# Altium footprint library avr_da.PcbLib: 16 footprints
Each footprint in its own frame and in the unit in brackets; x right, y up, seen from the top. Pads: shape width x height; smd on the part's side, far side on the other; paste and mask are expansions set on the pad; w line width, h text height; cw(c..) or ccw(c..) is an arc to the next point about the centre after c.
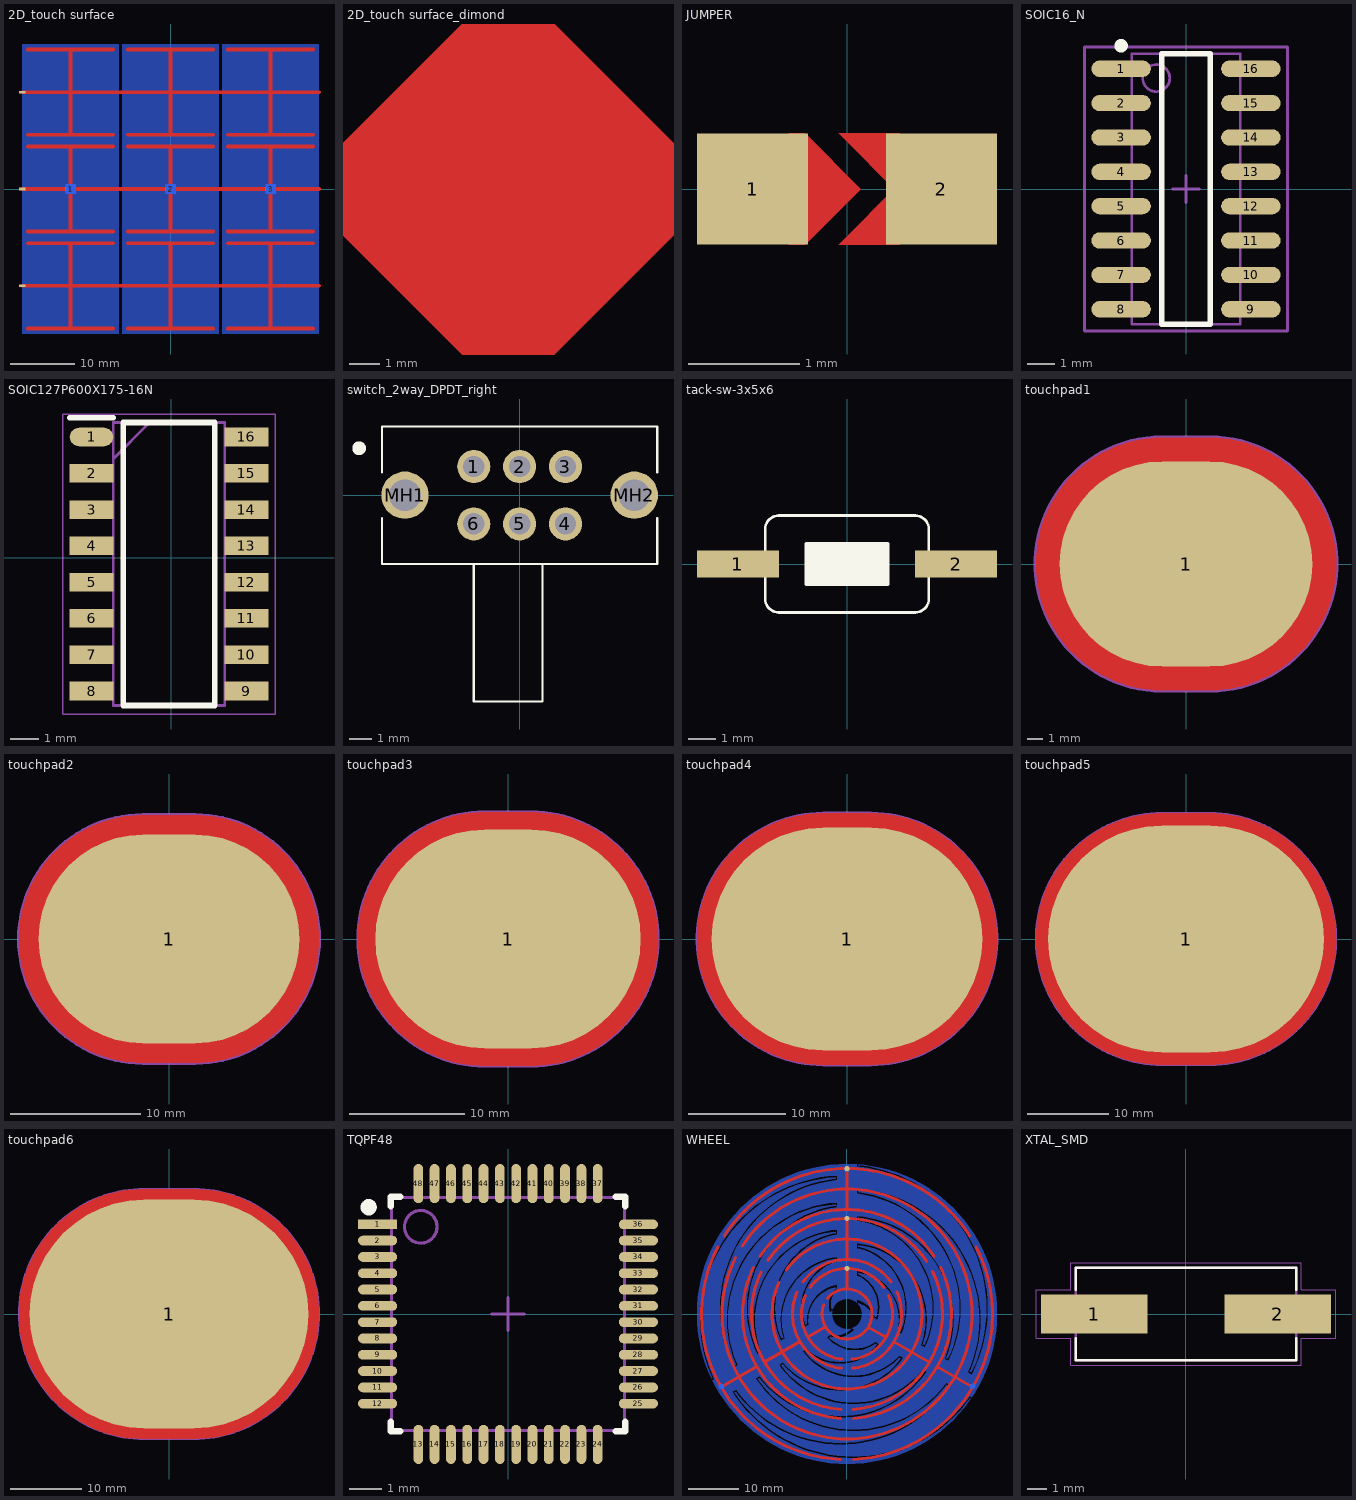
[diagram p0: the footprints below, top view; thin cyan lines are the x and y axes]

## 2D_touch surface [mm]
pads (6):
  rect 1.55x1.55 smd far side mask+0.102: 1(-15.5,0) 2(0,0) 3(15.5,0)
  rect 1x0.4 smd mask+0.102: 4(-23,15) 5(-23,0) 6(-23,-15)
Top Layer:
  lines w0.6: -23,-15 23,-15 ; -23,0 23,0 ; -23,15 23,15 ; -22.1,-21.6 -8.9,-21.6 ; -22.1,-8.4 -8.9,-8.4 ; -22.1,-6.6 -8.9,-6.6 ; -22.1,6.6 -8.9,6.6 ; -22.1,8.4 -8.9,8.4 ; -22.1,21.6 -8.9,21.6 ; -15.5,-21.6 -15.5,-8.4 ; -15.5,-6.6 -15.5,6.6 ; -15.5,8.4 -15.5,21.6 ; -6.6,-21.6 6.6,-21.6 ; -6.6,-8.4 6.6,-8.4 ; -6.6,-6.6 6.6,-6.6 ; -6.6,6.6 6.6,6.6 ; -6.6,8.4 6.6,8.4 ; -6.6,21.6 6.6,21.6 ; 0,-21.6 0,-8.4 ; 0,-6.6 0,6.6 ; 0,8.4 0,21.6 ; 8.9,-21.6 22.1,-21.6 ; 8.9,-8.4 22.1,-8.4 ; 8.9,-6.6 22.1,-6.6 ; 8.9,6.6 22.1,6.6 ; 8.9,8.4 22.1,8.4 ; 8.9,21.6 22.1,21.6 ; 15.5,-21.6 15.5,-8.4 ; 15.5,-6.6 15.5,6.6 ; 15.5,8.4 15.5,21.6
Bottom Layer:
  rectangle: -23,-22.5 -8,22.5
  rectangle: -7.5,-22.5 7.5,22.5
  rectangle: 8,-22.5 23,22.5

## 2D_touch surface_dimond [mm]
Top Layer:
  region: 0,-7.071 7.071,0 0,7.071 -7.071,0

## JUMPER [mm]
pads (2):
  rect 1x1 smd mask+0.05: 1(-0.85,0) 2(0.85,0)
Top Layer:
  region: -0.375,0.5 0.125,0 -0.375,-0.5 -0.525,-0.5 -0.525,0.5
  region: 0.475,0.05 0.475,-0.5 -0.075,-0.5
  region: 0.475,0.5 -0.075,0.5 0.475,-0.05

## SOIC16_N [mm] "SOIC, 16-Leads, Body 9.9x3.9mm, Pitch 1.27mm, IPC Medium Density"
height 1.91
pads (16):
  oval 2.2x0.6 smd: 1(-2.4,4.445) 2(-2.4,3.175) 3(-2.4,1.905) 4(-2.4,0.635) 5(-2.4,-0.635) 6(-2.4,-1.905) 7(-2.4,-3.175) 8(-2.4,-4.445) 9(2.4,-4.445) 10(2.4,-3.175) 11(2.4,-1.905) 12(2.4,-0.635) 13(2.4,0.635) 14(2.4,1.905) 15(2.4,3.175) 16(2.4,4.445)
Top Overlay:
  circle w0.25: c-2.4,5.295 r0.125
  lines w0.2: -0.9,-5 -0.9,5 0.9,5 0.9,-5 -0.9,-5
Mechanical 13:
  circle w0.1: c-1.1,4.1 r0.5
  lines w0.1: -2,-5 -2,5 2,5 2,-5 -2,-5
Mechanical 15:
  lines w0.1: -0.5,0 0.5,0 ; 0,-0.5 0,0.5 ; -3.75,-5.25 -3.75,5.25 3.75,5.25 3.75,-5.25 -3.75,-5.25
3D body: height 1.91, standoff 0, extent -2,-5 2,5

## SOIC127P600X175-16N [mm]
pads (16):
  oval 1.525x0.65 smd: 1(-2.787,4.22)
  rect 1.525x0.65 smd: 2(-2.787,2.95) 3(-2.787,1.68) 4(-2.787,0.41) 5(-2.787,-0.86) 6(-2.787,-2.13) 7(-2.787,-3.4) 8(-2.787,-4.67) 9(2.637,-4.67) 10(2.637,-3.4) 11(2.637,-2.13) 12(2.637,-0.86) 13(2.637,0.41) 14(2.637,1.68) 15(2.637,2.95) 16(2.637,4.22)
Top Overlay:
  lines w0.2: -3.55,4.895 -2.025,4.895 ; -1.675,-5.175 -1.675,4.725 1.525,4.725 1.525,-5.175 -1.675,-5.175
Mechanical 13:
  lines w0.1: -2.025,3.455 -0.755,4.725 ; -2.025,-5.175 -2.025,4.725 1.875,4.725 1.875,-5.175 -2.025,-5.175
Mechanical 15:
  lines w0.05: -3.8,-5.475 -3.8,5.025 3.65,5.025 3.65,-5.475 -3.8,-5.475
3D body "MAX3232ECD.stp": height 1.75, standoff 0, extent -3.088,-5.165 2.938,4.735

## switch_2way_DPDT_right [mm]
pads (8):
  round 1.447 hole 0.93: 1(-2,1.25) 2(0,1.25) 3(2,1.25) 4(2,-1.25) 5(0,-1.25) 6(-2,-1.25)
  round 2.07 hole 1.38: MH1(-5,0) MH2(5,0)
Top Overlay:
  lines w0.1: -6,-1 -6,-3 6,-3 6,-1 ; -6,1 -6,3 6,3 6,1 ; -2,-3 -2,-9 1,-9 1,-3
  lines w0.5: -7,2 cw(c-7,2.05) -7,2.1 cw(c-7,2.05) -7,2
3D body "step_temp.STEP": height 5.07, standoff -2.93, extent -5.093,-9.048 5.207,2.952

## tack-sw-3x5x6 [mm]
pads (2):
  rect 3x1 smd mask+0.05: 1(-4,0) 2(4,0)
Top Overlay:
  rectangle: -1.5,-0.75 1.5,0.75
  lines w0.1: -3,-1.275 ccw(c-2.5,-1.275) -2.5,-1.775 2.5,-1.775 ccw(c2.5,-1.275) 3,-1.275 3,1.275 ccw(c2.5,1.275) 2.5,1.775 -2.5,1.775 ccw(c-2.5,1.275) -3,1.275 -3,-1.275 ; -1.5,-0.75 1.5,-0.75 1.5,0.75 -1.5,0.75 -1.5,-0.75
3D body "RS-032G05A3-SM RT--3DModel-STEP-56544.STEP": height 4.3, standoff 0, extent -4,-1.75 4,1.75

## touchpad1 [mm]
pads (1):
  oval 16x13 smd mask+0.102: 1(0,0)
Top Layer:
  pour cut-out: -1.5,-8 -1.949,-8 -2.842,-7.899 -3.718,-7.699 -4.566,-7.403 -5.376,-7.013 -6.137,-6.535 -6.839,-5.975 -7.475,-5.339 -8.035,-4.637 -8.513,-3.876 -8.903,-3.066 -9.199,-2.218 -9.399,-1.342 -9.5,-0.449 -9.5,0.449 -9.399,1.342 -9.199,2.218 -8.903,3.066 -8.513,3.876 -8.035,4.637 -7.475,5.339 -6.839,5.975 -6.137,6.535 -5.376,7.013 -4.566,7.403 -3.718,7.699 -2.842,7.899 -1.949,8 -1.5,8 1.5,8 1.949,8 2.842,7.899 3.718,7.699 4.566,7.403 5.376,7.013 6.137,6.535 6.839,5.975 7.475,5.339 8.035,4.637 8.513,3.876 8.903,3.066 9.199,2.218 9.399,1.342 9.5,0.449 9.5,-0.449 9.399,-1.342 9.199,-2.218 8.903,-3.066 8.513,-3.876 8.035,-4.637 7.475,-5.339 6.839,-5.975 6.137,-6.535 5.376,-7.013 4.566,-7.403 3.718,-7.699 2.842,-7.899 1.949,-8 1.5,-8
Bottom Layer:
  pour cut-out: -1.5,-8 -1.949,-8 -2.842,-7.899 -3.718,-7.699 -4.566,-7.403 -5.376,-7.013 -6.137,-6.535 -6.839,-5.975 -7.475,-5.339 -8.035,-4.637 -8.513,-3.876 -8.903,-3.066 -9.199,-2.218 -9.399,-1.342 -9.5,-0.449 -9.5,0.449 -9.399,1.342 -9.199,2.218 -8.903,3.066 -8.513,3.876 -8.035,4.637 -7.475,5.339 -6.839,5.975 -6.137,6.535 -5.376,7.013 -4.566,7.403 -3.718,7.699 -2.842,7.899 -1.949,8 -1.5,8 1.5,8 1.949,8 2.842,7.899 3.718,7.699 4.566,7.403 5.376,7.013 6.137,6.535 6.839,5.975 7.475,5.339 8.035,4.637 8.513,3.876 8.903,3.066 9.199,2.218 9.399,1.342 9.5,0.449 9.5,-0.449 9.399,-1.342 9.199,-2.218 8.903,-3.066 8.513,-3.876 8.035,-4.637 7.475,-5.339 6.839,-5.975 6.137,-6.535 5.376,-7.013 4.566,-7.403 3.718,-7.699 2.842,-7.899 1.949,-8 1.5,-8
Top Overlay:
  text "13x16" at -3.05,-0.725 h3
Top Courtyard:
  lines w0.3: -1.5,-8 cw(c-1.5,0) -1.5,8 1.5,8 cw(c1.5,0) 1.5,-8 -1.5,-8

## touchpad2 [mm]
pads (1):
  oval 20x16 smd mask+0.102: 1(0,0)
Top Layer:
  pour cut-out: -2,-9.5 -2.467,-9.5 -3.396,-9.409 -4.311,-9.226 -5.204,-8.955 -6.067,-8.598 -6.89,-8.158 -7.666,-7.64 -8.388,-7.048 -9.048,-6.388 -9.64,-5.666 -10.158,-4.89 -10.598,-4.067 -10.955,-3.204 -11.226,-2.311 -11.409,-1.396 -11.5,-0.467 -11.5,0.467 -11.409,1.396 -11.226,2.311 -10.955,3.204 -10.598,4.067 -10.158,4.89 -9.64,5.666 -9.048,6.388 -8.388,7.048 -7.666,7.64 -6.89,8.158 -6.067,8.598 -5.204,8.955 -4.311,9.226 -3.396,9.409 -2.467,9.5 -2,9.5 2,9.5 2.467,9.5 3.396,9.409 4.311,9.226 5.204,8.955 6.067,8.598 6.89,8.158 7.666,7.64 8.388,7.048 9.048,6.388 9.64,5.666 10.158,4.89 10.598,4.067 10.955,3.204 11.226,2.311 11.409,1.396 11.5,0.467 11.5,-0.467 11.409,-1.396 11.226,-2.311 10.955,-3.204 10.598,-4.067 10.158,-4.89 9.64,-5.666 9.048,-6.388 8.388,-7.048 7.666,-7.64 6.89,-8.158 6.067,-8.598 5.204,-8.955 4.311,-9.226 3.396,-9.409 2.467,-9.5 2,-9.5
Bottom Layer:
  pour cut-out: -2,-9.5 -2.467,-9.5 -3.396,-9.409 -4.311,-9.226 -5.204,-8.955 -6.067,-8.598 -6.89,-8.158 -7.666,-7.64 -8.388,-7.048 -9.048,-6.388 -9.64,-5.666 -10.158,-4.89 -10.598,-4.067 -10.955,-3.204 -11.226,-2.311 -11.409,-1.396 -11.5,-0.467 -11.5,0.467 -11.409,1.396 -11.226,2.311 -10.955,3.204 -10.598,4.067 -10.158,4.89 -9.64,5.666 -9.048,6.388 -8.388,7.048 -7.666,7.64 -6.89,8.158 -6.067,8.598 -5.204,8.955 -4.311,9.226 -3.396,9.409 -2.467,9.5 -2,9.5 2,9.5 2.467,9.5 3.396,9.409 4.311,9.226 5.204,8.955 6.067,8.598 6.89,8.158 7.666,7.64 8.388,7.048 9.048,6.388 9.64,5.666 10.158,4.89 10.598,4.067 10.955,3.204 11.226,2.311 11.409,1.396 11.5,0.467 11.5,-0.467 11.409,-1.396 11.226,-2.311 10.955,-3.204 10.598,-4.067 10.158,-4.89 9.64,-5.666 9.048,-6.388 8.388,-7.048 7.666,-7.64 6.89,-8.158 6.067,-8.598 5.204,-8.955 4.311,-9.226 3.396,-9.409 2.467,-9.5 2,-9.5
Top Overlay:
  text "16x20" at -3.05,-0.725 h3
Top Courtyard:
  lines w0.3: -2,-9.5 cw(c-2,0) -2,9.5 2,9.5 cw(c2,0) 2,-9.5 -2,-9.5

## touchpad3 [mm]
pads (1):
  oval 23x19 smd mask+0.102: 1(0,0)
Top Layer:
  pour cut-out: -2,-11 -2.48,-11 -3.437,-10.916 -4.383,-10.749 -5.311,-10.501 -6.214,-10.172 -7.084,-9.766 -7.916,-9.286 -8.703,-8.735 -9.439,-8.118 -10.118,-7.439 -10.735,-6.703 -11.286,-5.916 -11.766,-5.084 -12.172,-4.214 -12.501,-3.311 -12.749,-2.383 -12.916,-1.437 -13,-0.48 -13,0.48 -12.916,1.437 -12.749,2.383 -12.501,3.311 -12.172,4.214 -11.766,5.084 -11.286,5.916 -10.735,6.703 -10.118,7.439 -9.439,8.118 -8.703,8.735 -7.916,9.286 -7.084,9.766 -6.214,10.172 -5.311,10.501 -4.383,10.749 -3.437,10.916 -2.48,11 -2,11 2,11 2.48,11 3.437,10.916 4.383,10.749 5.311,10.501 6.214,10.172 7.084,9.766 7.916,9.286 8.703,8.735 9.439,8.118 10.118,7.439 10.735,6.703 11.286,5.916 11.766,5.084 12.172,4.214 12.501,3.311 12.749,2.383 12.916,1.437 13,0.48 13,-0.48 12.916,-1.437 12.749,-2.383 12.501,-3.311 12.172,-4.214 11.766,-5.084 11.286,-5.916 10.735,-6.703 10.118,-7.439 9.439,-8.118 8.703,-8.735 7.916,-9.286 7.084,-9.766 6.214,-10.172 5.311,-10.501 4.383,-10.749 3.437,-10.916 2.48,-11 2,-11
Bottom Layer:
  pour cut-out: -2,-11 -2.48,-11 -3.437,-10.916 -4.383,-10.749 -5.311,-10.501 -6.214,-10.172 -7.084,-9.766 -7.916,-9.286 -8.703,-8.735 -9.439,-8.118 -10.118,-7.439 -10.735,-6.703 -11.286,-5.916 -11.766,-5.084 -12.172,-4.214 -12.501,-3.311 -12.749,-2.383 -12.916,-1.437 -13,-0.48 -13,0.48 -12.916,1.437 -12.749,2.383 -12.501,3.311 -12.172,4.214 -11.766,5.084 -11.286,5.916 -10.735,6.703 -10.118,7.439 -9.439,8.118 -8.703,8.735 -7.916,9.286 -7.084,9.766 -6.214,10.172 -5.311,10.501 -4.383,10.749 -3.437,10.916 -2.48,11 -2,11 2,11 2.48,11 3.437,10.916 4.383,10.749 5.311,10.501 6.214,10.172 7.084,9.766 7.916,9.286 8.703,8.735 9.439,8.118 10.118,7.439 10.735,6.703 11.286,5.916 11.766,5.084 12.172,4.214 12.501,3.311 12.749,2.383 12.916,1.437 13,0.48 13,-0.48 12.916,-1.437 12.749,-2.383 12.501,-3.311 12.172,-4.214 11.766,-5.084 11.286,-5.916 10.735,-6.703 10.118,-7.439 9.439,-8.118 8.703,-8.735 7.916,-9.286 7.084,-9.766 6.214,-10.172 5.311,-10.501 4.383,-10.749 3.437,-10.916 2.48,-11 2,-11
Top Overlay:
  text "19x23" at -3.025,-0.625 h3
Top Courtyard:
  lines w0.3: -2,-11 cw(c-2,0) -2,11 2,11 cw(c2,0) 2,-11 -2,-11

## touchpad4 [mm]
pads (1):
  oval 28x23 smd mask+0.102: 1(0,0)
Top Layer:
  pour cut-out: -2.5,-13 -3.068,-13 -4.198,-12.901 -5.316,-12.704 -6.413,-12.41 -7.48,-12.022 -8.508,-11.542 -9.492,-10.975 -10.421,-10.323 -11.291,-9.594 -12.094,-8.791 -12.823,-7.921 -13.475,-6.992 -14.042,-6.008 -14.522,-4.98 -14.91,-3.913 -15.204,-2.816 -15.401,-1.698 -15.5,-0.568 -15.5,0.568 -15.401,1.698 -15.204,2.816 -14.91,3.913 -14.522,4.98 -14.042,6.008 -13.475,6.992 -12.823,7.921 -12.094,8.791 -11.291,9.594 -10.421,10.323 -9.492,10.975 -8.508,11.542 -7.48,12.022 -6.413,12.41 -5.316,12.704 -4.198,12.901 -3.068,13 -2.5,13 2.5,13 3.068,13 4.198,12.901 5.316,12.704 6.413,12.41 7.48,12.022 8.508,11.542 9.492,10.975 10.421,10.323 11.291,9.594 12.094,8.791 12.823,7.921 13.475,6.992 14.042,6.008 14.522,4.98 14.91,3.913 15.204,2.816 15.401,1.698 15.5,0.568 15.5,-0.568 15.401,-1.698 15.204,-2.816 14.91,-3.913 14.522,-4.98 14.042,-6.008 13.475,-6.992 12.823,-7.921 12.094,-8.791 11.291,-9.594 10.421,-10.323 9.492,-10.975 8.508,-11.542 7.48,-12.022 6.413,-12.41 5.316,-12.704 4.198,-12.901 3.068,-13 2.5,-13
Bottom Layer:
  pour cut-out: -2.5,-13 -3.068,-13 -4.198,-12.901 -5.316,-12.704 -6.413,-12.41 -7.48,-12.022 -8.508,-11.542 -9.492,-10.975 -10.421,-10.323 -11.291,-9.594 -12.094,-8.791 -12.823,-7.921 -13.475,-6.992 -14.042,-6.008 -14.522,-4.98 -14.91,-3.913 -15.204,-2.816 -15.401,-1.698 -15.5,-0.568 -15.5,0.568 -15.401,1.698 -15.204,2.816 -14.91,3.913 -14.522,4.98 -14.042,6.008 -13.475,6.992 -12.823,7.921 -12.094,8.791 -11.291,9.594 -10.421,10.323 -9.492,10.975 -8.508,11.542 -7.48,12.022 -6.413,12.41 -5.316,12.704 -4.198,12.901 -3.068,13 -2.5,13 2.5,13 3.068,13 4.198,12.901 5.316,12.704 6.413,12.41 7.48,12.022 8.508,11.542 9.492,10.975 10.421,10.323 11.291,9.594 12.094,8.791 12.823,7.921 13.475,6.992 14.042,6.008 14.522,4.98 14.91,3.913 15.204,2.816 15.401,1.698 15.5,0.568 15.5,-0.568 15.401,-1.698 15.204,-2.816 14.91,-3.913 14.522,-4.98 14.042,-6.008 13.475,-6.992 12.823,-7.921 12.094,-8.791 11.291,-9.594 10.421,-10.323 9.492,-10.975 8.508,-11.542 7.48,-12.022 6.413,-12.41 5.316,-12.704 4.198,-12.901 3.068,-13 2.5,-13
Top Overlay:
  text "23x28" at -3.25,-0.675 h3
Top Courtyard:
  lines w0.3: -2.5,-13 cw(c-2.5,0) -2.5,13 2.5,13 cw(c2.5,0) 2.5,-13 -2.5,-13

## touchpad5 [mm]
pads (1):
  oval 34x28 smd mask+0.102: 1(0,0)
Top Layer:
  pour cut-out: -3,-15.5 3,-15.5 3.609,-15.5 4.823,-15.404 6.026,-15.214 7.211,-14.93 8.369,-14.553 9.494,-14.087 10.579,-13.534 11.618,-12.898 12.603,-12.182 13.53,-11.391 14.391,-10.53 15.182,-9.603 15.898,-8.618 16.534,-7.579 17.087,-6.494 17.553,-5.369 17.93,-4.211 18.214,-3.026 18.404,-1.823 18.5,-0.609 18.5,0.609 18.404,1.823 18.214,3.026 17.93,4.211 17.553,5.369 17.087,6.494 16.534,7.579 15.898,8.618 15.182,9.603 14.391,10.53 13.53,11.391 12.603,12.182 11.618,12.898 10.579,13.534 9.494,14.087 8.369,14.553 7.211,14.93 6.026,15.214 4.823,15.404 3.609,15.5 3,15.5 -3,15.5 -3.609,15.5 -4.823,15.404 -6.026,15.214 -7.211,14.93 -8.369,14.553 -9.494,14.087 -10.579,13.534 -11.618,12.898 -12.603,12.182 -13.53,11.391 -14.391,10.53 -15.182,9.603 -15.898,8.618 -16.534,7.579 -17.087,6.494 -17.553,5.369 -17.93,4.211 -18.214,3.026 -18.404,1.823 -18.5,0.609 -18.5,-0.609 -18.404,-1.823 -18.214,-3.026 -17.93,-4.211 -17.553,-5.369 -17.087,-6.494 -16.534,-7.579 -15.898,-8.618 -15.182,-9.603 -14.391,-10.53 -13.53,-11.391 -12.603,-12.182 -11.618,-12.898 -10.579,-13.534 -9.494,-14.087 -8.369,-14.553 -7.211,-14.93 -6.026,-15.214 -4.823,-15.404 -3.609,-15.5
Bottom Layer:
  pour cut-out: -3,-15.5 3,-15.5 3.609,-15.5 4.823,-15.404 6.026,-15.214 7.211,-14.93 8.369,-14.553 9.494,-14.087 10.579,-13.534 11.618,-12.898 12.603,-12.182 13.53,-11.391 14.391,-10.53 15.182,-9.603 15.898,-8.618 16.534,-7.579 17.087,-6.494 17.553,-5.369 17.93,-4.211 18.214,-3.026 18.404,-1.823 18.5,-0.609 18.5,0.609 18.404,1.823 18.214,3.026 17.93,4.211 17.553,5.369 17.087,6.494 16.534,7.579 15.898,8.618 15.182,9.603 14.391,10.53 13.53,11.391 12.603,12.182 11.618,12.898 10.579,13.534 9.494,14.087 8.369,14.553 7.211,14.93 6.026,15.214 4.823,15.404 3.609,15.5 3,15.5 -3,15.5 -3.609,15.5 -4.823,15.404 -6.026,15.214 -7.211,14.93 -8.369,14.553 -9.494,14.087 -10.579,13.534 -11.618,12.898 -12.603,12.182 -13.53,11.391 -14.391,10.53 -15.182,9.603 -15.898,8.618 -16.534,7.579 -17.087,6.494 -17.553,5.369 -17.93,4.211 -18.214,3.026 -18.404,1.823 -18.5,0.609 -18.5,-0.609 -18.404,-1.823 -18.214,-3.026 -17.93,-4.211 -17.553,-5.369 -17.087,-6.494 -16.534,-7.579 -15.898,-8.618 -15.182,-9.603 -14.391,-10.53 -13.53,-11.391 -12.603,-12.182 -11.618,-12.898 -10.579,-13.534 -9.494,-14.087 -8.369,-14.553 -7.211,-14.93 -6.026,-15.214 -4.823,-15.404 -3.609,-15.5
Top Overlay:
  text "28x34" at -3.25,-0.675 h3
Top Courtyard:
  lines w0.3: -3,-15.5 cw(c-3,0) -3,15.5 3,15.5 cw(c3,0) 3,-15.5 -3,-15.5

## touchpad6 [mm]
pads (1):
  oval 39x32 smd mask+0.102: 1(0,0)
Top Layer:
  pour cut-out: -3.5,-17.5 3.5,-17.5 4.125,-17.5 5.372,-17.411 6.609,-17.233 7.831,-16.967 9.03,-16.615 10.201,-16.178 11.338,-15.659 12.435,-15.06 13.487,-14.384 14.488,-13.635 15.432,-12.816 16.316,-11.932 17.135,-10.988 17.884,-9.987 18.56,-8.935 19.159,-7.838 19.678,-6.701 20.115,-5.53 20.467,-4.331 20.733,-3.109 20.911,-1.872 21,-0.625 21,0.625 20.911,1.872 20.733,3.109 20.467,4.331 20.115,5.53 19.678,6.701 19.159,7.838 18.56,8.935 17.884,9.987 17.135,10.988 16.316,11.932 15.432,12.816 14.488,13.635 13.487,14.384 12.435,15.06 11.338,15.659 10.201,16.178 9.03,16.615 7.831,16.967 6.609,17.233 5.372,17.411 4.125,17.5 3.5,17.5 -3.5,17.5 -4.125,17.5 -5.372,17.411 -6.609,17.233 -7.831,16.967 -9.03,16.615 -10.201,16.178 -11.338,15.659 -12.435,15.06 -13.487,14.384 -14.488,13.635 -15.432,12.816 -16.316,11.932 -17.135,10.988 -17.884,9.987 -18.56,8.935 -19.159,7.838 -19.678,6.701 -20.115,5.53 -20.467,4.331 -20.733,3.109 -20.911,1.872 -21,0.625 -21,-0.625 -20.911,-1.872 -20.733,-3.109 -20.467,-4.331 -20.115,-5.53 -19.678,-6.701 -19.159,-7.838 -18.56,-8.935 -17.884,-9.987 -17.135,-10.988 -16.316,-11.932 -15.432,-12.816 -14.488,-13.635 -13.487,-14.384 -12.435,-15.06 -11.338,-15.659 -10.201,-16.178 -9.03,-16.615 -7.831,-16.967 -6.609,-17.233 -5.372,-17.411 -4.125,-17.5
Bottom Layer:
  pour cut-out: -3.5,-17.5 3.5,-17.5 4.125,-17.5 5.372,-17.411 6.609,-17.233 7.831,-16.967 9.03,-16.615 10.201,-16.178 11.338,-15.659 12.435,-15.06 13.487,-14.384 14.488,-13.635 15.432,-12.816 16.316,-11.932 17.135,-10.988 17.884,-9.987 18.56,-8.935 19.159,-7.838 19.678,-6.701 20.115,-5.53 20.467,-4.331 20.733,-3.109 20.911,-1.872 21,-0.625 21,0.625 20.911,1.872 20.733,3.109 20.467,4.331 20.115,5.53 19.678,6.701 19.159,7.838 18.56,8.935 17.884,9.987 17.135,10.988 16.316,11.932 15.432,12.816 14.488,13.635 13.487,14.384 12.435,15.06 11.338,15.659 10.201,16.178 9.03,16.615 7.831,16.967 6.609,17.233 5.372,17.411 4.125,17.5 3.5,17.5 -3.5,17.5 -4.125,17.5 -5.372,17.411 -6.609,17.233 -7.831,16.967 -9.03,16.615 -10.201,16.178 -11.338,15.659 -12.435,15.06 -13.487,14.384 -14.488,13.635 -15.432,12.816 -16.316,11.932 -17.135,10.988 -17.884,9.987 -18.56,8.935 -19.159,7.838 -19.678,6.701 -20.115,5.53 -20.467,4.331 -20.733,3.109 -20.911,1.872 -21,0.625 -21,-0.625 -20.911,-1.872 -20.733,-3.109 -20.467,-4.331 -20.115,-5.53 -19.678,-6.701 -19.159,-7.838 -18.56,-8.935 -17.884,-9.987 -17.135,-10.988 -16.316,-11.932 -15.432,-12.816 -14.488,-13.635 -13.487,-14.384 -12.435,-15.06 -11.338,-15.659 -10.201,-16.178 -9.03,-16.615 -7.831,-16.967 -6.609,-17.233 -5.372,-17.411 -4.125,-17.5
Top Overlay:
  text "32x39" at -3.25,-0.675 h3
Top Courtyard:
  lines w0.3: -3.5,-17.5 cw(c-3.5,0) -3.5,17.5 3.5,17.5 cw(c3.5,0) 3.5,-17.5 -3.5,-17.5

## TQPF48 [mm] "QFN, 48-Leads, Body 7x7mm, Pitch 0.5mm, IPC Low Density"
height 0.9
pads (48):
  rect 1.2x0.3 smd mask+0.05: 1(-4,2.75)
  oval 1.2x0.3 smd mask+0.05: 2(-4,2.25) 3(-4,1.75) 4(-4,1.25) 5(-4,0.75) 6(-4,0.25) 7(-4,-0.25) 8(-4,-0.75) 9(-4,-1.25) 10(-4,-1.75) 11(-4,-2.25) 12(-4,-2.75) 25(4,-2.75) 26(4,-2.25) 27(4,-1.75) 28(4,-1.25) 29(4,-0.75) 30(4,-0.25) 31(4,0.25) 32(4,0.75) 33(4,1.25) 34(4,1.75) 35(4,2.25) 36(4,2.75)
  oval 0.3x1.2 smd mask+0.05: 13(-2.75,-4) 14(-2.25,-4) 15(-1.75,-4) 16(-1.25,-4) 17(-0.75,-4) 18(-0.25,-4) 19(0.25,-4) 20(0.75,-4) 21(1.25,-4) 22(1.75,-4) 23(2.25,-4) 24(2.75,-4) 37(2.75,4) 38(2.25,4) 39(1.75,4) 40(1.25,4) 41(0.75,4) 42(0.25,4) 43(-0.25,4) 44(-0.75,4) 45(-1.25,4) 46(-1.75,4) 47(-2.25,4) 48(-2.75,4)
Top Overlay:
  circle w0.25: c-4.275,3.275 r0.125
  lines w0.2: -3.6,-3.3 -3.6,-3.6 -3.3,-3.6 ; -3.6,3.3 -3.6,3.6 -3.3,3.6 ; 3.3,-3.6 3.6,-3.6 3.6,-3.3 ; 3.3,3.6 3.6,3.6 3.6,3.3
Mechanical 13:
  circle w0.1: c-2.675,2.675 r0.5
  lines w0.1: -3.575,-3.575 -3.575,3.575 3.575,3.575 3.575,-3.575 -3.575,-3.575
Mechanical 15:
  lines w0.1: -0.5,0 0.5,0 ; 0,-0.5 0,0.5
3D body: height 0.9, standoff 0, extent -3.575,-3.575 3.575,3.575

## WHEEL [mm]
pads (6):
  round 1 smd far side paste-0.5 mask+0.102: 1(25.115,-14.5) 2(0,29) 3(-25.115,-14.5)
  round 1 smd paste-0.5 mask+0.102: 4(0,29.1) 5(0,19.1) 6(0,9.1)
Top Layer:
  lines w0.5: -0.1,9.15 0.05,9.15
  lines w0.6: -25.812,13.437 ccw(c0,0) -1.269,-29.072 ; -25.162,-14.616 -18.061,-10.516 ; -24.543,15.635 cw(c0,0) 24.543,15.635 ; -22.275,11.35 ccw(c0,0) -20.967,13.616 ; -20.577,20.577 cw(c0,0) 20.577,20.577 ; -18.704,9.326 ccw(c0,0) -1.276,-20.861 ; -17.428,11.535 cw(c0,0) 17.428,11.535 ; -17.167,8.373 ccw(c0,0) -1.166,-19.064 ; -16.502,-9.616 -9.401,-5.516 ; -15.835,10.681 cw(c0,0) 15.927,10.542 ; -13.595,6.339 ccw(c0,0) -12.135,8.817 ; -9.958,4.433 ccw(c0,0) -1.139,-10.84 ; -8.818,6.407 cw(c0,0) 8.818,6.407 ; -8.313,3.701 ccw(c0,0) -0.951,-9.05 ; -7.842,-4.616 -4.291,-2.566 ; -7.362,5.349 cw(c0,0) 7.362,5.349 ; -4.648,1.844 ccw(c0,0) -3.926,3.096 ; 0,5 0,9.1 ; 0,10.9 0,19.1 ; 0,20.9 0,29.1 ; 0.951,-9.05 ccw(c0,0) 8.313,3.701 ; 1.139,-10.84 ccw(c0,0) 9.958,4.433 ; 1.166,-19.064 ccw(c0,0) 17.093,8.522 ; 1.269,-29.072 ccw(c0,0) 25.812,13.437 ; 1.276,-20.861 ccw(c0,0) 18.704,9.326 ; 4.264,-2.619 7.815,-4.669 ; 9.374,-5.569 16.475,-9.669 ; 18.034,-10.569 25.135,-14.669
Bottom Layer:
  drawing of 3 lines, arcs and shapes, not listed

## XTAL_SMD [mm]
pads (2):
  rect 5.5x2 smd: 1(-4.75,0) 2(4.75,0)
Top Overlay:
  lines w0.127: -5.7,-1.254 -5.7,-2.4 5.7,-2.4 5.7,-1.254 ; -5.7,1.254 -5.7,2.4 5.7,2.4 5.7,1.254
Mechanical 13:
  lines w0.127: -5.7,-2.4 -5.7,2.4 5.7,2.4 5.7,-2.4 -5.7,-2.4
Mechanical 15:
  lines w0.05: -7.75,-1.25 -5.95,-1.25 -5.95,-2.65 5.95,-2.65 5.95,-1.25 7.75,-1.25 7.75,1.25 5.95,1.25 5.95,2.65 -5.95,2.65 -5.95,1.25 -7.75,1.25 -7.75,-1.25
3D body "ECS-180-S-5P-DN-TR.STEP": height 4.3, standoff 0, extent -6.6,-2.39 6.6,2.41